# EAGLE library part FPC_1.0_CONN_ZIF_SMT_BOTTOM (library FaBo-Connetor)
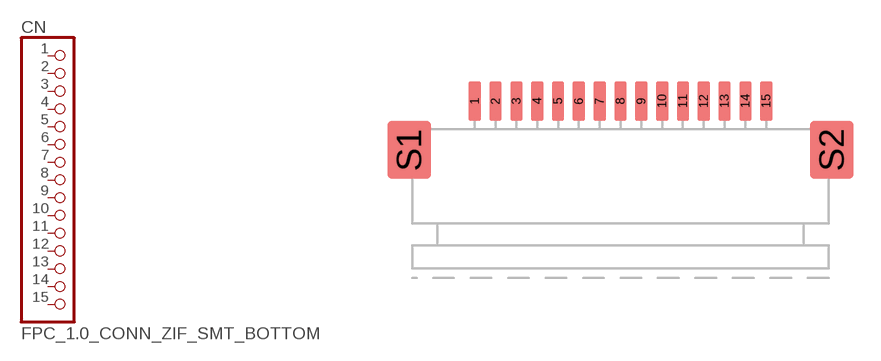
[diagram p4: symbol with the pads of 52271-1579; footprint 52271-1579]

Designator prefix CN

## FPC_1.0_CONN_ZIF_SMT_BOTTOM  [52271-1579]
1  1  pas
2  2  pas
3  3  pas
4  4  pas
5  5  pas
6  6  pas
7  7  pas
8  8  pas
9  9  pas
10  10  pas
11  11  pas
12  12  pas
13  13  pas
14  14  pas
15  15  pas

## Footprint 52271-1579 (pad centres in mm)
Molex 0522711579 Easy-On FFC/FPC Connector, 1.00mm Pitch, Slider Series, Right-Angle, Bottom Contact, 3.00mm Height, 15 Circuits, Tin-Bismuth Plating https://www.molex.com/molex/products/part-detail/ffc_fpc_connectors/0522711579 Current 0.5A Voltage 50V
smd 0.6 x 1.9: 1 -7,0; 2 -6,0; 3 -5,0; 4 -4,0; 5 -3,0; 6 -2,0; 7 -1,0; 8 0,0; 9 1,0; 10 2,0; 11 3,0; 12 4,0; 13 5,0; 14 6,0; 15 7,0
smd 2.1 x 2.8: S1 -10.15,-2.35; S2 10.15,-2.35